# Altium schematic symbol library 6-1879335-5.SchLib: 1 symbol
Pins are listed as number, name and electrical type; pins without a type are passive.

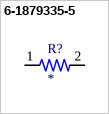
[diagram p0: symbol 6-1879335-5]

## 6-1879335-5
designator R?
CPF 0603 100R 1% 50PPM 1K RL; MP: 6-1879335-5; MF: {'manufacturer': u'TE Connectivity'}; Value: *; Package: None; Price: None; Availability: Unavailable
footprint RESC1608X50N
pins: 1, 2